# Altium schematic symbol library LED-RGB-4p.SchLib: 1 symbol
Pins are listed as number, name and electrical type; pins without a type are passive.

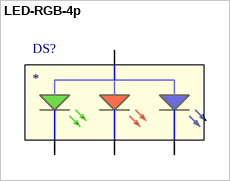
[diagram p0: symbol LED-RGB-4p]

## LED-RGB-4p
designator DS?
pins: 1 K, 2 A, 3 K, 4 K